# Altium footprint library 集成IC.PcbLib: 32 footprints (part 1 of 2)
Each footprint in its own frame and in the unit in brackets; x right, y up, seen from the top. Pads: shape width x height; smd on the part's side, far side on the other; paste and mask are expansions set on the pad; w line width, h text height; cw(c..) or ccw(c..) is an arc to the next point about the centre after c.
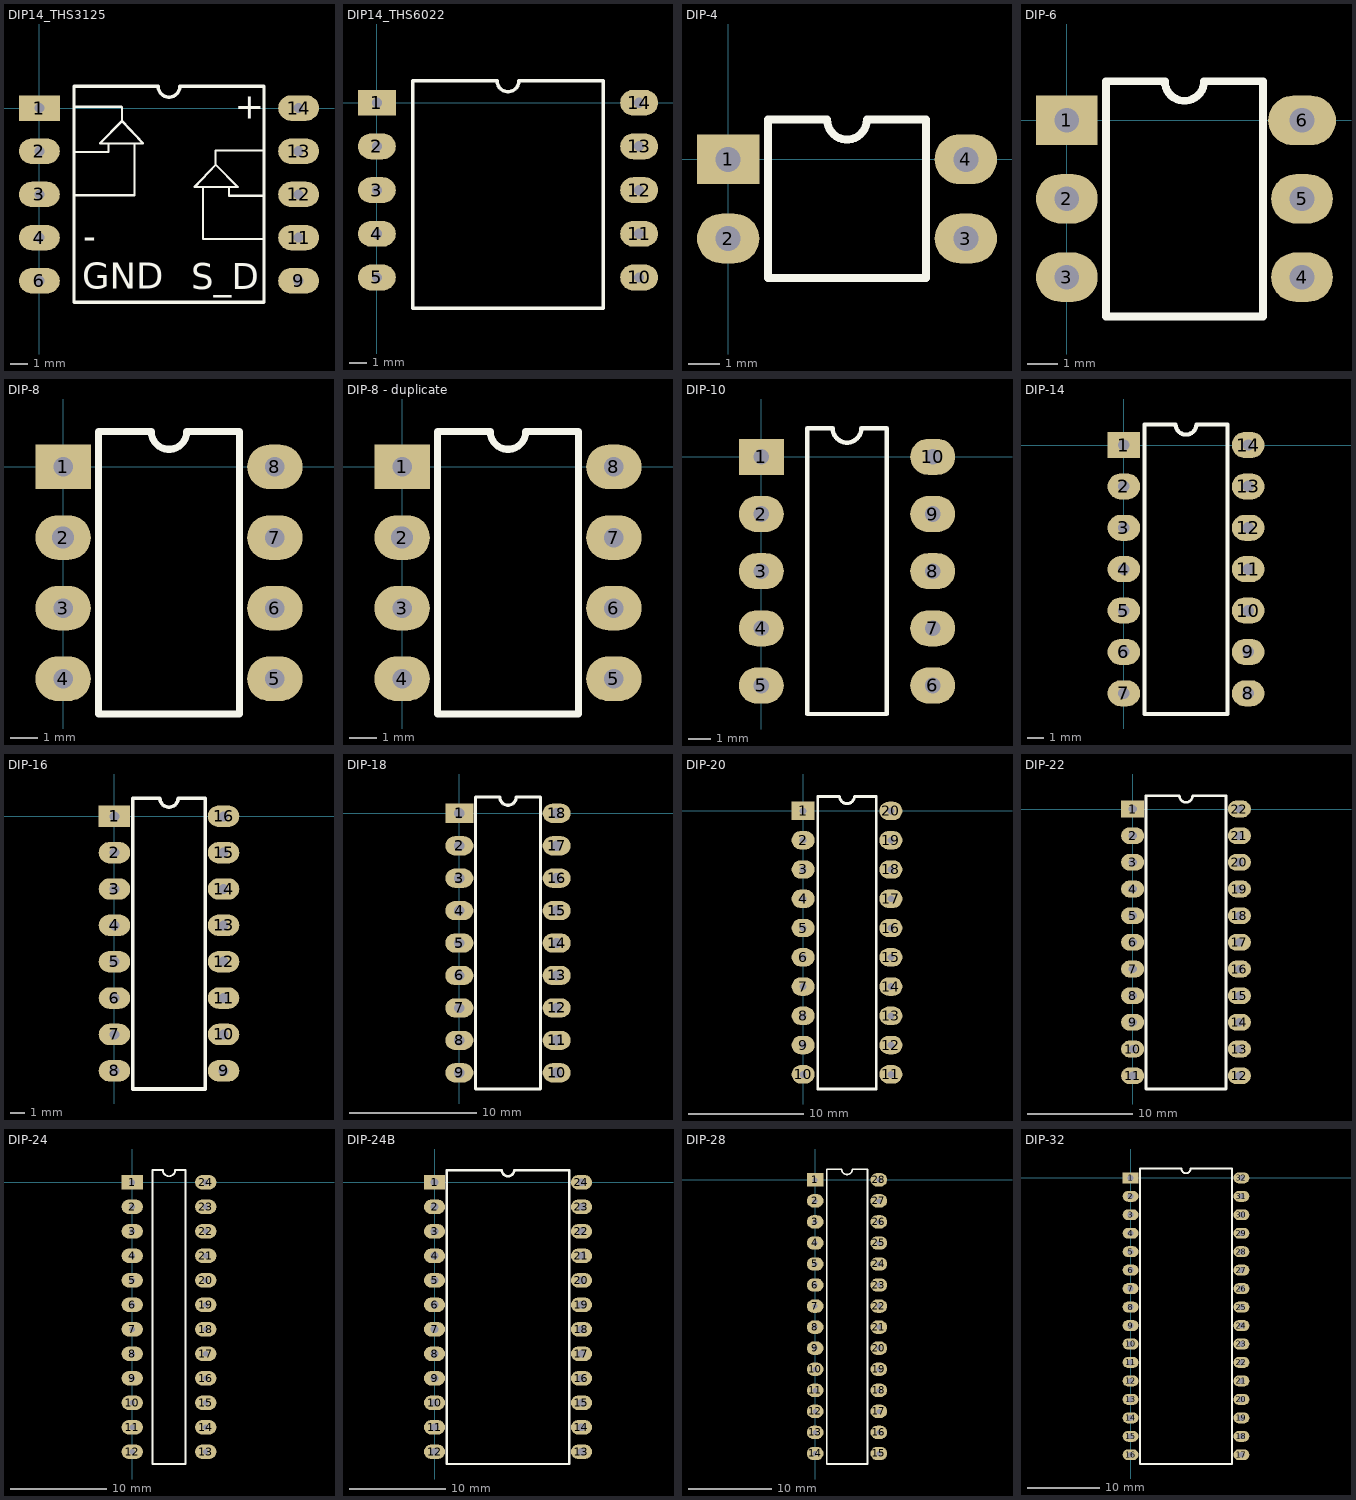
[diagram p0: the footprints below, top view; thin cyan lines are the x and y axes]

## DIP14_THS3125 [mm]
pads (10):
  rect 2.4x1.5 hole 0.6: 1(0,0)
  oval 2.4x1.5 hole 0.6: 2(0,-2.54) 3(0,-5.08) 4(0,-7.62) 6(0,-10.16) 9(15.24,-10.16) 11(15.24,-7.62) 12(15.24,-5.08) 13(15.24,-2.54) 14(15.24,0)
Top Overlay:
  lines w0.127: 2.032,-5.131 5.588,-5.131 5.588,-2.083 ; 2.032,-2.591 4.064,-2.591 4.064,-2.083 ; 2.035,0.076 4.826,0.076 4.851,0.051 4.851,-0.762 ; 9.627,-4.648 9.627,-7.696 13.183,-7.696 ; 11.151,-4.648 11.151,-5.156 13.183,-5.156 ; 13.205,-2.489 10.389,-2.489 10.363,-2.515 10.363,-3.327 ; 4.851,-0.762 6.096,-2.083 3.556,-2.083 4.851,-0.762 ; 10.363,-3.327 9.119,-4.648 11.659,-4.648 10.363,-3.327
  lines w0.2: 2.035,-11.43 2.035,1.27 6.985,1.27 ccw(c7.62,1.27) 8.255,1.27 13.205,1.27 13.205,-11.43 2.035,-11.43
  text "+" at 11.481,-0.635 h1.52
  text "-" at 2.565,-8.306 h1.52
  text "GND" at 2.515,-10.617 h1.52
  text "S_D" at 8.915,-10.643 h1.52

## DIP14_THS6022 [mm]
pads (10):
  rect 2.2x1.5 hole 0.6: 1(0,0)
  oval 2.2x1.5 hole 0.6: 2(0,-2.54) 3(0,-5.08) 4(0,-7.62) 5(0,-10.16) 10(15.24,-10.16) 11(15.24,-7.62) 12(15.24,-5.08) 13(15.24,-2.54) 14(15.24,0)
Top Overlay:
  lines w0.2: 2.085,-11.938 2.085,1.27 6.985,1.27 ccw(c7.62,1.27) 8.255,1.27 13.155,1.27 13.155,-11.938 2.085,-11.938

## DIP-4 [mm]
pads (4):
  rect 2x1.6 hole 0.8: 1(0,0)
  oval 2x1.6 hole 0.8: 2(0,-2.54) 3(7.62,-2.54) 4(7.62,0)
Top Overlay:
  lines w0.254: 1.27,-3.81 6.35,-3.81 6.35,1.27 4.445,1.27 cw(c3.81,1.27) 3.175,1.27 1.27,1.27 1.27,-3.81

## DIP-6 [mm]
pads (6):
  rect 2x1.6 hole 0.8: 1(0,0)
  oval 2x1.6 hole 0.8: 2(0,-2.54) 3(0,-5.08) 4(7.62,-5.08) 5(7.62,-2.54)
  oval 2.2x1.6 hole 0.8: 6(7.62,0)
Top Overlay:
  lines w0.254: 1.27,-6.35 1.27,1.27 3.175,1.27 ccw(c3.81,1.27) 4.445,1.27 6.35,1.27 6.35,-6.35 1.27,-6.35

## DIP-8 [mm]
pads (8):
  rect 2x1.6 hole 0.7: 1(0,0)
  oval 2x1.6 hole 0.8: 2(0,-2.54)
  oval 2x1.6 hole 0.7: 3(0,-5.08) 4(0,-7.62) 5(7.62,-7.62) 6(7.62,-5.08) 7(7.62,-2.54) 8(7.62,0)
Top Overlay:
  lines w0.254: 1.27,-8.89 6.35,-8.89 6.35,1.27 4.445,1.27 cw(c3.81,1.27) 3.175,1.27 1.27,1.27 1.27,-8.89

## DIP-8 - duplicate [mm]
pads (8):
  rect 2x1.6 hole 0.7: 1(0,0)
  oval 2x1.6 hole 0.8: 2(0,-2.54)
  oval 2x1.6 hole 0.7: 3(0,-5.08) 4(0,-7.62) 5(7.62,-7.62) 6(7.62,-5.08) 7(7.62,-2.54) 8(7.62,0)
Top Overlay:
  lines w0.254: 1.27,-8.89 6.35,-8.89 6.35,1.27 4.445,1.27 cw(c3.81,1.27) 3.175,1.27 1.27,1.27 1.27,-8.89

## DIP-10 [mm]
pads (10):
  rect 2x1.6 hole 0.7: 1(0,0)
  oval 2x1.6 hole 0.7: 2(0,-2.54) 3(0,-5.08) 4(0,-7.62) 5(0,-10.16) 6(7.62,-10.16) 7(7.62,-7.62) 8(7.62,-5.08) 9(7.62,-2.54) 10(7.62,0)
Top Overlay:
  lines w0.2: 2.035,-11.43 5.585,-11.43 5.585,1.27 4.445,1.27 cw(c3.81,1.27) 3.175,1.27 2.035,1.27 2.035,-11.43

## DIP-14 [mm]
pads (14):
  rect 2x1.6 hole 0.7: 1(0,0)
  oval 2x1.6 hole 0.7: 2(0,-2.54) 3(0,-5.08) 4(0,-7.62) 5(0,-10.16) 6(0,-12.7) 7(0,-15.24) 8(7.62,-15.24) 9(7.62,-12.7) 10(7.62,-10.16) 11(7.62,-7.62) 12(7.62,-5.08) 13(7.62,-2.54) 14(7.62,0)
Top Overlay:
  lines w0.254: 1.27,-16.51 1.27,1.27 3.175,1.27 ccw(c3.81,1.27) 4.445,1.27 6.35,1.27 6.35,-16.51 1.27,-16.51

## DIP-16 [mm]
pads (16):
  rect 2.2x1.5 hole 0.7: 1(0,0)
  oval 2.2x1.5 hole 0.7: 2(0,-2.54) 3(0,-5.08) 4(0,-7.62) 5(0,-10.16) 6(0,-12.7) 7(0,-15.24) 8(0,-17.78) 9(7.62,-17.78) 10(7.62,-15.24) 11(7.62,-12.7) 12(7.62,-10.16) 13(7.62,-7.62) 14(7.62,-5.08) 15(7.62,-2.54) 16(7.62,0)
Top Overlay:
  lines w0.254: 1.27,-19.05 6.35,-19.05 6.35,1.27 4.445,1.27 cw(c3.81,1.27) 3.175,1.27 1.27,1.27 1.27,-19.05

## DIP-18 [mm]
pads (18):
  rect 2.2x1.5 hole 0.8: 1(0,0)
  oval 2.2x1.5 hole 0.8: 2(0,-2.54) 3(0,-5.08) 4(0,-7.62) 5(0,-10.16) 6(0,-12.7) 7(0,-15.24) 8(0,-17.78) 9(0,-20.32) 10(7.62,-20.32) 11(7.62,-17.78) 12(7.62,-15.24) 13(7.62,-12.7) 14(7.62,-10.16) 15(7.62,-7.62) 16(7.62,-5.08) 17(7.62,-2.54) 18(7.62,0)
Top Overlay:
  lines w0.254: 1.27,-21.59 1.27,1.27 3.175,1.27 ccw(c3.81,1.27) 4.445,1.27 6.35,1.27 6.35,-21.59 1.27,-21.59

## DIP-20 [mm]
pads (20):
  rect 2x1.6 hole 0.6: 1(0,0)
  oval 2x1.6 hole 0.6: 2(0,-2.54) 3(0,-5.08) 4(0,-7.62) 5(0,-10.16) 6(0,-12.7) 7(0,-15.24) 8(0,-17.78) 9(0,-20.32) 10(0,-22.86) 11(7.62,-22.86) 12(7.62,-20.32) 13(7.62,-17.78) 14(7.62,-15.24) 15(7.62,-12.7) 16(7.62,-10.16) 17(7.62,-7.62) 18(7.62,-5.08) 19(7.62,-2.54) 20(7.62,0)
Top Overlay:
  lines w0.254: 1.27,-24.13 6.35,-24.13 6.35,1.27 4.445,1.27 cw(c3.81,1.27) 3.175,1.27 1.27,1.27 1.27,-24.13

## DIP-22 [mm]
pads (22):
  rect 2.2x1.6 hole 0.8: 1(0,0)
  oval 2.2x1.6 hole 0.8: 2(0,-2.54) 3(0,-5.08) 4(0,-7.62) 5(0,-10.16) 6(0,-12.7) 7(0,-15.24) 8(0,-17.78) 9(0,-20.32) 10(0,-22.86) 11(0,-25.4) 12(10.16,-25.4) 13(10.16,-22.86) 14(10.16,-20.32) 15(10.16,-17.78) 16(10.16,-15.24) 17(10.16,-12.7) 18(10.16,-10.16) 19(10.16,-7.62) 20(10.16,-5.08) 21(10.16,-2.54) 22(10.16,0)
Top Overlay:
  lines w0.254: 1.27,-26.67 1.27,1.27 4.445,1.27 ccw(c5.08,1.27) 5.715,1.27 8.89,1.27 8.89,-26.67 1.27,-26.67

## DIP-24 [mm]
pads (24):
  rect 2.2x1.5 hole 0.6: 1(0,0)
  oval 2.2x1.5 hole 0.6: 2(0,-2.54) 3(0,-5.08) 4(0,-7.62) 5(0,-10.16) 6(0,-12.7) 7(0,-15.24) 8(0,-17.78) 9(0,-20.32) 10(0,-22.86) 11(0,-25.4) 12(0,-27.94) 13(7.62,-27.94) 14(7.62,-25.4) 15(7.62,-22.86) 16(7.62,-20.32) 17(7.62,-17.78) 18(7.62,-15.24) 19(7.62,-12.7) 20(7.62,-10.16) 21(7.62,-7.62) 22(7.62,-5.08) 23(7.62,-2.54) 24(7.62,0)
Top Overlay:
  lines w0.2: 2.085,-29.21 2.085,1.27 3.175,1.27 ccw(c3.81,1.27) 4.445,1.27 5.535,1.27 5.535,-29.21 2.085,-29.21

## DIP-24B [mm]
pads (24):
  rect 2.2x1.5 hole 0.8: 1(0,0)
  oval 2.2x1.5 hole 0.8: 2(0,-2.54) 3(0,-5.08) 4(0,-7.62) 5(0,-10.16) 6(0,-12.7) 7(0,-15.24) 8(0,-17.78) 9(0,-20.32) 10(0,-22.86) 11(0,-25.4) 12(0,-27.94) 13(15.24,-27.94) 14(15.24,-25.4) 15(15.24,-22.86) 16(15.24,-20.32) 17(15.24,-17.78) 18(15.24,-15.24) 19(15.24,-12.7) 20(15.24,-10.16) 21(15.24,-7.62) 22(15.24,-5.08) 23(15.24,-2.54) 24(15.24,0)
Top Overlay:
  lines w0.254: 1.27,-29.21 1.27,1.27 6.985,1.27 ccw(c7.62,1.27) 8.255,1.27 13.97,1.27 13.97,-29.21 1.27,-29.21

## DIP-28 [mm]
pads (28):
  rect 2x1.6 hole 0.6: 1(0,0)
  oval 2x1.6 hole 0.6: 2(0,-2.52) 3(0,-5.04) 4(0,-7.56) 5(0,-10.08) 6(0,-12.6) 7(0,-15.12) 8(0,-17.64) 9(0,-20.16) 10(0,-22.68) 11(0,-25.2) 12(0,-27.72) 13(0,-30.24) 14(0,-32.76) 15(7.62,-32.76) 16(7.62,-30.24) 17(7.62,-27.72) 18(7.62,-25.2) 19(7.62,-22.68) 20(7.62,-20.16) 21(7.62,-17.64) 22(7.62,-15.12) 23(7.62,-12.6) 24(7.62,-10.08) 25(7.62,-7.56) 26(7.62,-5.04) 27(7.62,-2.52) 28(7.62,0)
Top Overlay:
  lines w0.2: 1.397,-34.02 6.274,-34.02 6.274,1.26 4.44,1.26 cw(c3.81,1.26) 3.18,1.26 1.397,1.26 1.397,-34.02

## DIP-32 [mm]
pads (32):
  rect 2.2x1.5 hole 0.8: 1(0,0)
  oval 2.2x1.5 hole 0.8: 2(0,-2.54) 3(0,-5.08) 4(0,-7.62) 5(0,-10.16) 6(0,-12.7) 7(0,-15.24) 8(0,-17.78) 9(0,-20.32) 10(0,-22.86) 11(0,-25.4) 12(0,-27.94) 13(0,-30.48) 14(0,-33.02) 15(0,-35.56) 16(0,-38.1) 17(15.24,-38.1) 18(15.24,-35.56) 19(15.24,-33.02) 20(15.24,-30.48) 21(15.24,-27.94) 22(15.24,-25.4) 23(15.24,-22.86) 24(15.24,-20.32) 25(15.24,-17.78) 26(15.24,-15.24) 27(15.24,-12.7) 28(15.24,-10.16) 29(15.24,-7.62) 30(15.24,-5.08) 31(15.24,-2.54) 32(15.24,0)
Top Overlay:
  lines w0.254: 1.27,-39.37 13.97,-39.37 13.97,1.27 8.255,1.27 cw(c7.62,1.27) 6.985,1.27 1.27,1.27 1.27,-39.37